# EAGLE library part GYRO_L3G2400D (library microbuilder)
L3G4200D - 3-Axis MEMS gyroscope/motion sensor Three selectable scales: 250/500/2000 dps 1²C/SPI Interface 16-bit data 8-bit temperature VDD: 2.4-3.6V (IO 1.8V compatible) -40°C-85°C
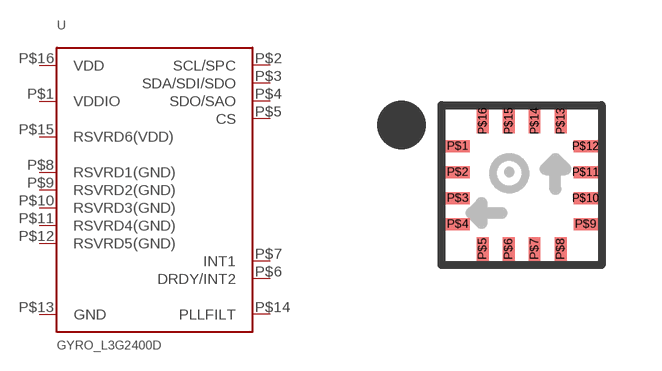
[diagram p169: symbol with the pads of L3G4200D_LGA16L; footprint L3G4200D_LGA16L]

Designator prefix U

## GYRO_L3G2400D  [L3G4200D_LGA16L]
P$1  VDDIO  pwr
P$2  SCL/SPC
P$3  SDA/SDI/SDO
P$4  SDO/SAO
P$5  CS
P$6  DRDY/INT2
P$7  INT1
P$8  RSVRD1(GND)
P$9  RSVRD2(GND)
P$10  RSVRD3(GND)
P$11  RSVRD4(GND)
P$12  RSVRD5(GND)
P$13  GND
P$14  PLLFILT
P$15  RSVRD6(VDD)
P$16  VDD

## Footprint L3G4200D_LGA16L (pad centres in mm)
smd 0.6 x 0.3: P$1 -1.6,0.975; P$2 -1.6,0.325; P$3 -1.6,-0.325; P$4 -1.6,-0.975; P$9 1.6,-0.975; P$10 1.6,-0.325; P$11 1.6,0.325; P$12 1.6,0.975
smd 0.3 x 0.6: P$5 -0.975,-1.6; P$6 -0.325,-1.6; P$7 0.325,-1.6; P$8 0.975,-1.6; P$13 0.975,1.6; P$14 0.325,1.6; P$15 -0.325,1.6; P$16 -0.975,1.6